# EAGLE library part FC1-10-02-T-FFC_CONNECTOR (library FC1-10-02-T - FFC Connector)
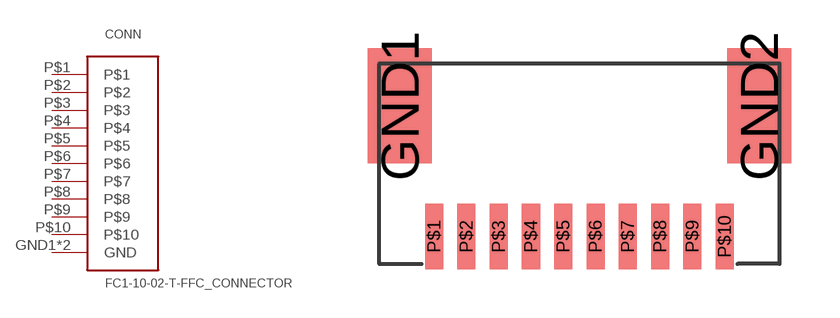
[diagram p0: symbol with the pads of SMD; footprint SMD]

Designator prefix CONN

## FC1-10-02-T-FFC_CONNECTOR  [SMD]
GND1  GND  pwr
GND2  GND  pwr
P$1  P$1
P$2  P$2
P$3  P$3
P$4  P$4
P$5  P$5
P$6  P$6
P$7  P$7
P$8  P$8
P$9  P$9
P$10  P$10

## Footprint SMD (pad centres in mm)
smd 1.98 x 3.56: GND1 -5.562,4.893; GND2 5.567,4.895
smd 0.56 x 2.03: P$1 -4.5,0.85; P$2 -3.5,0.85; P$3 -2.5,0.85; P$4 -1.5,0.85; P$5 -0.5,0.85; P$6 0.5,0.85; P$7 1.5,0.85; P$8 2.5,0.85; P$9 3.5,0.85; P$10 4.5,0.85